# Altium footprint library dpfootprint.PcbLib: 90 footprints (part 5 of 6)
Each footprint in its own frame and in the unit in brackets; x right, y up, seen from the top. Pads: shape width x height; smd on the part's side, far side on the other; paste and mask are expansions set on the pad; w line width, h text height; cw(c..) or ccw(c..) is an arc to the next point about the centre after c.
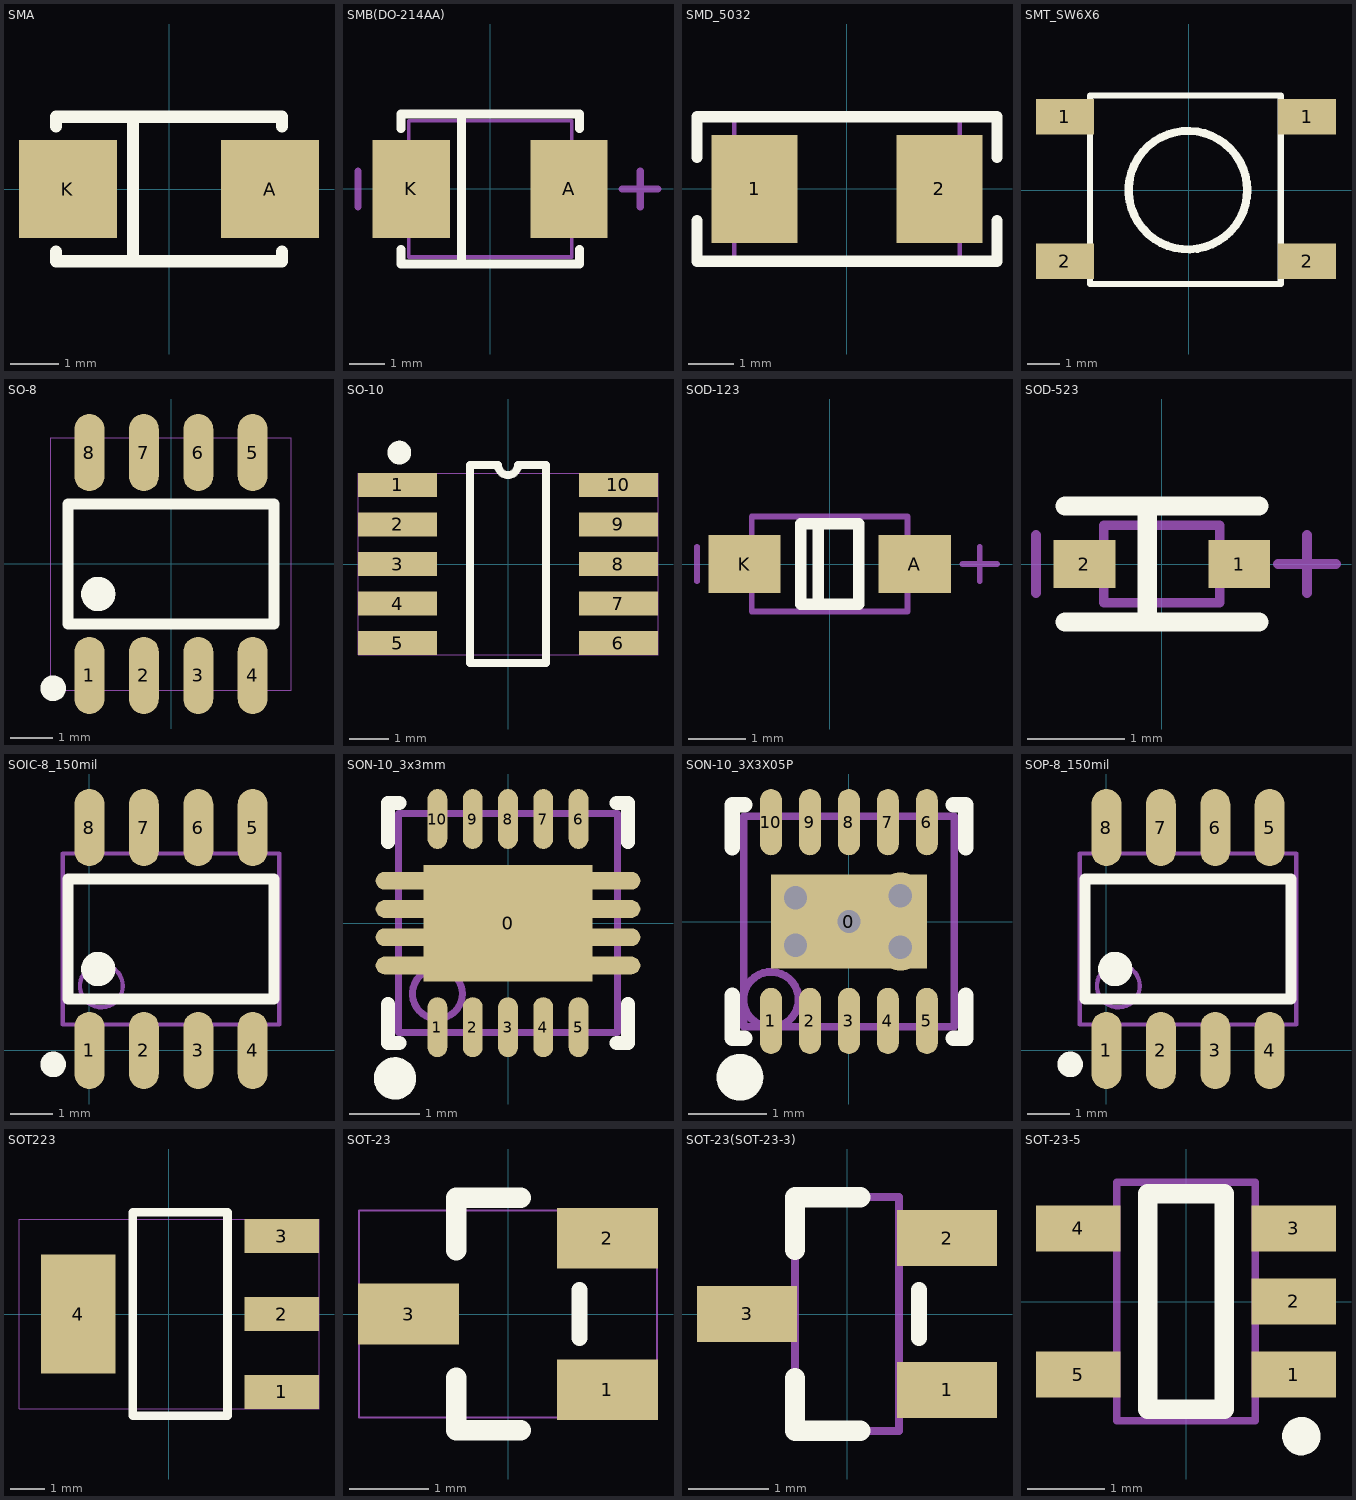
[diagram p4: the footprints below, top view; thin cyan lines are the x and y axes]

## SMA [mil] "SMA"
pads (2):
  rect 80x80 smd: A(82.68,0) K(-82.68,0)
Top Overlay:
  lines w10: -92.52,-51.18 -92.52,-59.06 92.52,-59.06 92.52,-51.18 ; -92.52,51.18 -92.52,59.06 92.52,59.06 92.52,51.18 ; -29.53,-59.06 -29.53,59.06

## SMB(DO-214AA) [mm]
pads (2):
  rect 2.159x2.743 smd: A(2.21,0) K(-2.21,0)
Top Overlay:
  lines w0.254: -2.5,-1.7 -2.5,-2.1 2.5,-2.1 2.5,-1.7 ; -2.5,1.7 -2.5,2.1 2.5,2.1 2.5,1.7 ; -0.8,-2.1 -0.8,2.1
Mechanical 13:
  lines w0.1: -2.285,-1.905 -2.285,1.905 2.285,1.905 2.285,-1.905 -2.285,-1.905
Mechanical 15:
  lines w0.203: -3.7,-0.5 -3.7,0.5 ; 3.7,0 4.7,0 ; 4.2,-0.5 4.2,0.5

## SMD_5032 [mm]
pads (2):
  rect 1.9x2.4 smd: 1(-2.05,0) 2(2.05,0)
Top Overlay:
  lines w0.254: -3.325,-0.7 -3.325,-1.6 3.325,-1.6 3.325,-0.7 ; -3.325,0.7 -3.325,1.6 3.325,1.6 3.325,0.7
Mechanical 13:
  lines w0.1: -2.5,-1.6 -2.5,1.6 2.5,1.6 2.5,-1.6 -2.5,-1.6

## SMT_SW6X6 [mm]
pads (4):
  rect 1.8x1.1 smd: 1(-3.855,2.286) 1(3.685,2.286) 2(-3.855,-2.214) 2(3.685,-2.214)
Top Overlay:
  circle w0.254: c-0.025,0 r1.846
  lines w0.2: -3.073,-2.921 2.87,-2.921 2.87,2.946 -3.073,2.946 -3.073,-2.921

## SO-8 [mm] "SO-8"
pads (8):
  oval 0.7x1.8 smd: 1(-1.905,-2.6) 2(-0.635,-2.6) 3(0.635,-2.6) 4(1.905,-2.6) 5(1.905,2.6) 6(0.635,2.6) 7(-0.635,2.6) 8(-1.905,2.6)
Top Overlay:
  circle w0.4: c-1.7,-0.7 r0.2
  circle w0.3: c-2.75,-2.9 r0.15
  lines w0.254: -2.4,-1.4 -2.4,1.4 2.4,1.4 2.4,-1.4 -2.4,-1.4
Mechanical 9:
  text "1" at -2.189,-2.6 h0.71
Mechanical 12:
  lines w0.025: -2.805,-2.95 -2.805,2.95 2.805,2.95 2.805,-2.95 -2.805,-2.95
Mechanical 13:
  lines w0.025: -2.805,-2.95 -2.805,2.95 2.805,2.95 2.805,-2.95 -2.805,-2.95

## SO-10 [mm] "SO-10"
pads (10):
  rect 2x0.6 smd: 1(-2.794,2) 2(-2.794,1) 3(-2.794,0) 4(-2.794,-1) 5(-2.794,-2) 6(2.794,-2) 7(2.794,-1) 8(2.794,0) 9(2.794,1) 10(2.794,2)
Top Overlay:
  circle w0.3: c-2.75,2.818 r0.15
  lines w0.2: -0.959,-2.5 0.959,-2.5 0.959,2.5 0.25,2.5 cw(c0,2.5) -0.25,2.5 -0.959,2.5 -0.959,-2.5
Mechanical 12:
  lines w0.025: -3.794,-2.3 3.794,-2.3 3.794,2.3 -3.794,2.3 -3.794,-2.3

## SOD-123 [mm]
pads (2):
  rect 1.25x1 smd: A(1.475,0) K(-1.475,0)
Top Overlay:
  lines w0.2: -0.2,-0.7 -0.2,0.7 ; -0.5,-0.7 0.5,-0.7 0.5,0.7 -0.5,0.7 -0.5,-0.7
Mechanical 13:
  lines w0.1: -1.35,-0.825 -1.35,0.825 1.35,0.825 1.35,-0.825 -1.35,-0.825
Mechanical 15:
  lines w0.1: -2.3,-0.3 -2.3,0.3 ; 2.3,0 2.9,0 ; 2.6,-0.3 2.6,0.3
3D body: height 1.35, standoff 0, extent -1.85,-0.775 1.85,0.775

## SOD-523 [mm]
pads (2):
  rect 0.64x0.5 smd: 1(0.8,0) 2(-0.8,0)
Top Overlay:
  lines w0.2: -1,-0.6 1,-0.6 ; -1,0.6 1,0.6 ; -0.15,-0.575 -0.15,0.6
Mechanical 13:
  lines w0.1: -0.6,-0.4 0.6,-0.4 0.6,0.4 -0.6,0.4 -0.6,-0.4
Mechanical 15:
  lines w0.1: -1.3,-0.3 -1.3,0.3 ; 1.2,0 1.8,0 ; 1.5,-0.3 1.5,0.3
3D body: height 0.7, standoff 0, extent -0.8,-0.399 0.8,0.399

## SOIC-8_150mil [mm]
pads (8):
  oval 0.7x1.8 smd: 1(0,0) 2(1.27,0) 3(2.54,0) 4(3.81,0) 5(3.81,5.2) 6(2.54,5.2) 7(1.27,5.2) 8(0,5.2)
Top Overlay:
  circle w0.4: c0.205,1.9 r0.2
  circle w0.3: c-0.845,-0.325 r0.15
  lines w0.254: -0.495,1.2 -0.495,4 4.305,4 4.305,1.2 -0.495,1.2
Mechanical 13:
  circle w0.1: c0.28,1.505 r0.5
  lines w0.1: -0.62,0.605 -0.62,4.595 4.43,4.595 4.43,0.605 -0.62,0.605
3D body: height 1.75, standoff 0, extent -0.595,-0.5 4.405,5.7

## SON-10_3x3mm [mm]
pads (19):
  rect 2.4x1.65 smd paste-0.825 mask+0.051: 0(0,0)
  oval 0.28x0.85 smd paste-0.025 mask+0.051: 1(-1,-1.475) 2(-0.5,-1.475) 3(0,-1.475) 4(0.5,-1.475) 5(1,-1.475) 6(1,1.475) 7(0.5,1.475) 8(0,1.475) 9(-0.5,1.475) 10(-1,1.475)
  oval 1x0.25 smd mask+0.051: ""(-1.375,-0.6) ""(-1.375,-0.2) ""(-1.375,0.2) ""(-1.375,0.6) ""(1.375,-0.6) ""(1.375,-0.2) ""(1.375,0.2) ""(1.375,0.6)
Top Overlay:
  circle w0.3: c-1.6,-2.2 r0.15
  lines w0.2: -1.7,-1.15 -1.7,-1.7 -1.54,-1.7 ; -1.7,1.15 -1.7,1.7 -1.54,1.7 ; 1.54,-1.7 1.7,-1.7 1.7,-1.15 ; 1.54,1.7 1.7,1.7 1.7,1.15
Top Paste:
  region: -0.55,0.6 -0.55,-0.6 0.5,-0.6 0.5,0.6
Mechanical 13:
  circle w0.1: c-1,-1 r0.354
  lines w0.1: -1.55,-1.55 1.55,-1.55 1.55,1.55 -1.55,1.55 -1.55,-1.55

## SON-10_3X3X05P [mm]
pads (11):
  rect 2x1.2 smd paste-0.825 mask+0.051: 0(0,0)
  oval 0.28x0.85 smd paste-0.025 mask+0.051: 1(-1,-1.275) 2(-0.5,-1.275) 3(0,-1.275) 4(0.5,-1.275) 5(1,-1.275) 6(1,1.275) 7(0.5,1.275) 8(0,1.275) 9(-0.5,1.275) 10(-1,1.275)
via 0,0 diameter 0.6 hole 0.3
via -0.686,-0.305 diameter 0.6 hole 0.3
via 0.66,0.33 diameter 0.6 hole 0.3
via 0.66,-0.33 diameter 0.6 hole 0.3
via -0.686,0.305 diameter 0.6 hole 0.3
Top Overlay:
  circle w0.3: c-1.399,-1.999 r0.15
  lines w0.2: -1.499,-0.949 -1.499,-1.499 -1.339,-1.499 ; -1.499,0.949 -1.499,1.499 -1.339,1.499 ; 1.339,-1.499 1.499,-1.499 1.499,-0.949 ; 1.339,1.499 1.499,1.499 1.499,0.949
Top Paste:
  region: -0.55,0.6 -0.55,-0.6 0.5,-0.6 0.5,0.6
Mechanical 13:
  circle w0.1: c-1,-1 r0.354
  lines w0.1: -1.35,-1.35 -1.35,1.35 1.35,1.35 1.35,-1.35 -1.35,-1.35

## SOP-8_150mil [mm]
pads (8):
  oval 0.7x1.8 smd: 1(0,0) 2(1.27,0) 3(2.54,0) 4(3.81,0) 5(3.81,5.2) 6(2.54,5.2) 7(1.27,5.2) 8(0,5.2)
Top Overlay:
  circle w0.4: c0.205,1.9 r0.2
  circle w0.3: c-0.845,-0.325 r0.15
  lines w0.254: -0.495,1.2 -0.495,4 4.305,4 4.305,1.2 -0.495,1.2
Mechanical 13:
  circle w0.1: c0.28,1.505 r0.5
  lines w0.1: -0.62,0.605 -0.62,4.595 4.43,4.595 4.43,0.605 -0.62,0.605
3D body: height 1.75, standoff 0, extent -0.595,-0.5 4.405,5.7

## SOT223 [mm] "SOT223"
pads (4):
  rect 2.2x1 smd: 1(3.325,-2.3) 2(3.325,0) 3(3.325,2.3)
  rect 2.2x3.5 smd: 4(-2.675,0)
Top Overlay:
  lines w0.254: -1.075,-3 -1.075,3 1.725,3 1.725,-3 -1.075,-3
Mechanical 12:
  lines w0.025: -4.425,-2.8 4.425,-2.8 4.425,2.8 -4.425,2.8 -4.425,-2.8

## SOT-23 [mil] "SOT-23"
pads (3):
  rect 50x30 smd: 1(49.21,-37.4) 2(49.21,37.4) 3(-49.21,0)
Top Overlay:
  lines w7.87: 35.43,-11.81 35.43,11.81
  lines w10: -25.59,-31.5 -25.59,-57.48 6.5,-57.48 ; 6.5,57.48 -25.59,57.48 ; -25.59,31.5 -25.59,57.48 ; -25.59,31.5 -25.59,57.48 ; -25.59,31.5 -25.59,57.48
Mechanical 12:
  lines w1: -73.82,-51.18 73.82,-51.18 73.82,51.18 -73.82,51.18 -73.82,-51.18

## SOT-23(SOT-23-3) [mm]
pads (3):
  rect 1.25x0.7 smd: 1(1.25,-0.95) 2(1.25,0.95) 3(-1.25,0)
Top Overlay:
  lines w0.2: 0.9,-0.3 0.9,0.3
  lines w0.254: -0.65,-0.8 -0.65,-1.46 0.165,-1.46 ; 0.165,1.46 -0.65,1.46 ; -0.65,0.8 -0.65,1.46 ; -0.65,0.8 -0.65,1.46 ; -0.65,0.8 -0.65,1.46
Mechanical 13:
  lines w0.1: -0.65,-1.46 -0.65,1.46 ; -0.65,-1.46 0.65,-1.46 ; -0.65,-1.46 0.65,-1.46 ; -0.65,-1.46 -0.65,1.46 ; -0.65,-1.46 0.65,-1.46 ; -0.65,-1.46 -0.65,1.46 ; -0.65,1.46 0.65,1.46 ; -0.65,1.46 0.65,1.46 ; -0.65,1.46 0.65,1.46 ; 0.65,-1.46 0.65,1.46 ; 0.65,-1.46 0.65,1.46 ; 0.65,-1.46 0.65,1.46
3D body: height 1.3, standoff 0, extent -1.5,-1.5 1.5,1.5

## SOT-23-5 [mm]
pads (5):
  rect 1.1x0.6 smd: 1(1.4,-0.95) 2(1.4,0) 3(1.4,0.95) 4(-1.4,0.95) 5(-1.4,-0.95)
Top Overlay:
  circle w0.25: c1.5,-1.75 r0.125
  lines w0.254: -0.5,-1.4 -0.5,1.4 0.5,1.4 0.5,-1.4 -0.5,-1.4
Mechanical 13:
  lines w0.1: -0.9,-1.55 0.9,-1.55 0.9,1.55 -0.9,1.55 -0.9,-1.55